# Altium footprint library CAPACITOR.PcbLib: 8 footprints
Each footprint in its own frame and in the unit in brackets; x right, y up, seen from the top. Pads: shape width x height; smd on the part's side, far side on the other; paste and mask are expansions set on the pad; w line width, h text height; cw(c..) or ccw(c..) is an arc to the next point about the centre after c.
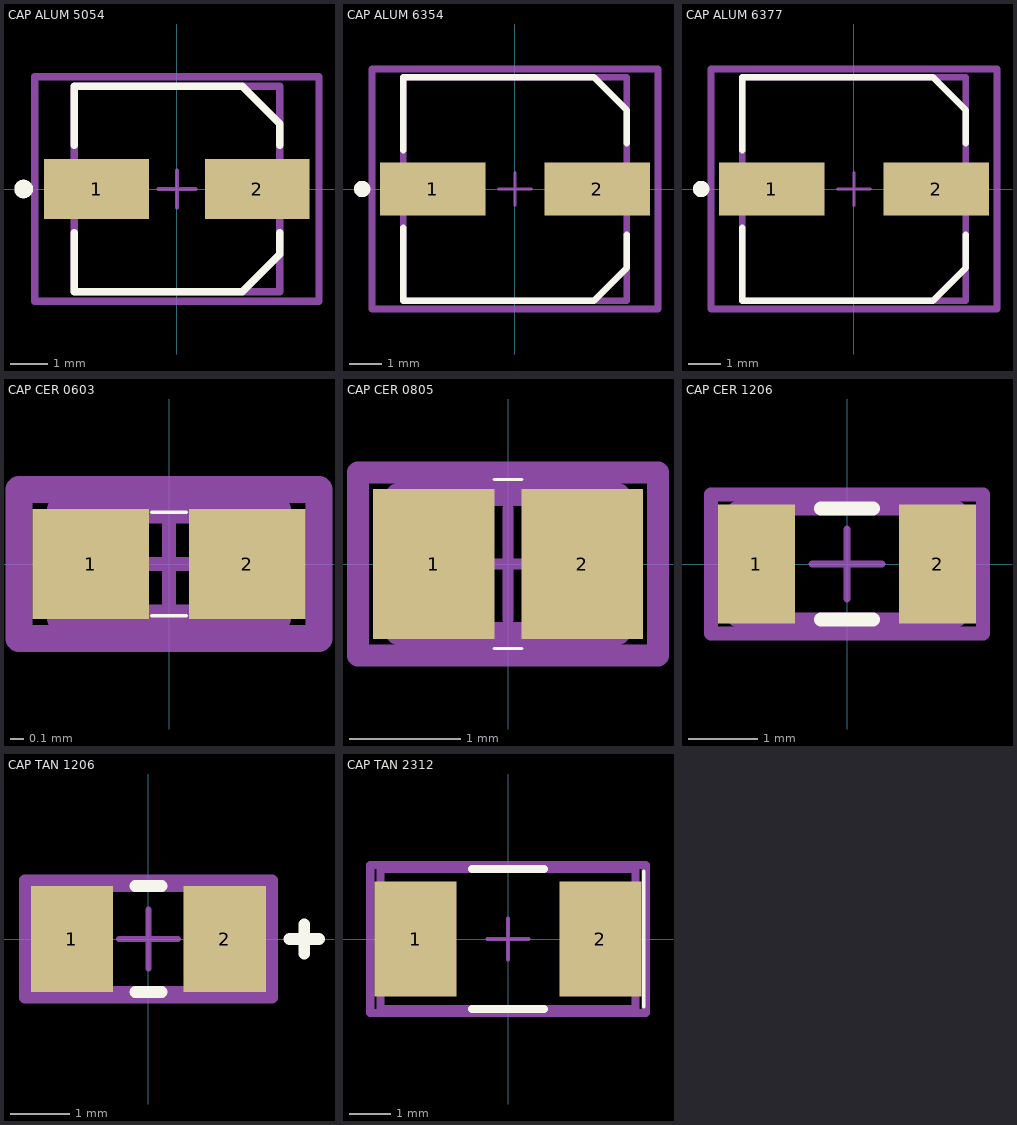
[diagram p0: the footprints below, top view; thin cyan lines are the x and y axes]

## CAP ALUM 5054 [mm]
pads (2):
  rect 2.8x1.6 smd paste+0: 1(-2.15,0) 2(2.15,0)
Top Overlay:
  circle w0.25: c-4.1,0 r0.125
  lines w0.2: -2.75,-1.175 -2.75,-2.75 1.75,-2.75 2.75,-1.75 2.75,-1.175 ; -2.75,1.175 -2.75,2.75 1.75,2.75 2.75,1.75 2.75,1.175
Top Assembly:
  lines w0.2: -3.8,-3 3.8,-3 3.8,3 -3.8,3 -3.8,-3
  text ".Designator" at 0,0.188 h1
Top 3D Body:
  lines w0.2: -2.75,-2.75 2.75,-2.75 2.75,2.75 -2.75,2.75 -2.75,-2.75
Top Courtyard:
  lines w0.2: -3.8,-3 3.8,-3 3.8,3 -3.8,3 -3.8,-3
Top Component Center:
  lines w0.1: -0.5,0 0.5,0 ; 0,-0.5 0,0.5
3D body "Cap_Panasonic_Electronic_Components_EEE-1AA101WR_eec.STEP": height 0.25, standoff 0, extent -3.8,-3 3.8,3

## CAP ALUM 6354 [mm]
pads (2):
  rect 3.2x1.6 smd paste+0: 1(-2.5,0) 2(2.5,0)
Top Overlay:
  circle w0.25: c-4.65,0 r0.125
  lines w0.2: -3.4,-1.175 -3.4,-3.4 2.4,-3.4 3.4,-2.4 3.4,-1.4 ; -3.4,1.175 -3.4,3.4 2.4,3.4 3.4,2.4 3.4,1.4
Top Assembly:
  lines w0.2: -4.35,-3.65 -4.35,3.65 4.35,3.65 4.35,-3.65 -4.35,-3.65
  text ".Designator" at 0,0.188 h1
Top 3D Body:
  lines w0.2: -3.4,-3.4 -3.4,3.4 3.4,3.4 3.4,-3.4 -3.4,-3.4
Top Courtyard:
  lines w0.2: -4.35,-3.65 -4.35,3.65 4.35,3.65 4.35,-3.65 -4.35,-3.65
Top Component Center:
  lines w0.1: -0.5,0 0.5,0 ; 0,-0.5 0,0.5
3D body "Cap_Panasonic_EEHZA1H330XP_eec.STEP": height 0.25, standoff 0, extent -4.35,-3.65 4.35,3.65

## CAP ALUM 6377 [mm]
pads (2):
  rect 3.2x1.6 smd paste+0: 1(-2.5,0) 2(2.5,0)
Top Overlay:
  circle w0.25: c-4.65,0 r0.125
  lines w0.2: -3.4,-1.175 -3.4,-3.4 2.4,-3.4 3.4,-2.4 3.4,-1.4 ; -3.4,1.175 -3.4,3.4 2.4,3.4 3.4,2.4 3.4,1.4
Top Assembly:
  lines w0.2: -4.35,-3.65 4.35,-3.65 4.35,3.65 -4.35,3.65 -4.35,-3.65
  text ".Designator" at 0,0.188 h1
Top 3D Body:
  lines w0.2: -3.4,-3.4 3.4,-3.4 3.4,3.4 -3.4,3.4 -3.4,-3.4
Top Courtyard:
  lines w0.2: -4.35,-3.65 4.35,-3.65 4.35,3.65 -4.35,3.65 -4.35,-3.65
Top Component Center:
  lines w0.1: -0.5,0 0.5,0 ; 0,-0.5 0,0.5
3D body "Cap_Panasonic_EEHZA1H330XP_eec.STEP": height 0.25, standoff 0, extent -4.35,-3.65 4.35,3.65

## CAP CER 0603 [mm] "cap 0603 smd"
pads (2):
  rect 0.858x0.812 smd paste+0: 1(-0.577,0) 2(0.577,0)
Top Overlay:
  lines w0.025: -0.127,-0.381 0.127,-0.381 ; -0.127,0.381 0.127,0.381
Top Assembly:
  lines w0.2: -1.106,-0.55 -1.106,0.55 1.106,0.55 1.106,-0.55 -1.106,-0.55
  text ".Designator" at 0,0.188 h1
Top 3D Body:
  lines w0.2: -0.8,-0.4 -0.8,0.4 0.8,0.4 0.8,-0.4 -0.8,-0.4
Top Courtyard:
  lines w0.2: -1.106,-0.55 -1.106,0.55 1.106,0.55 1.106,-0.55 -1.106,-0.55
Top Component Center:
  lines w0.1: -0.5,0 0.5,0 ; 0,-0.5 0,0.5
3D body "csmd-0603_l1-6_w0-81_h0-86.stp": height 0.86, standoff 0, extent -0.8,-0.405 0.8,0.405

## CAP CER 0805 [mm] "cap 0805smd"
pads (2):
  rect 1.1x1.356 smd paste+0 mask+0.05: 1(-0.67,0) 2(0.67,0)
Top Overlay:
  lines w0.025: -0.127,-0.762 0.127,-0.762 ; -0.127,0.762 0.127,0.762
Top Assembly:
  lines w0.2: -1.353,-0.825 1.353,-0.825 1.353,0.825 -1.353,0.825 -1.353,-0.825
  text ".Designator" at 0,0.188 h1
Top 3D Body:
  lines w0.2: -1,-0.625 1,-0.625 1,0.625 -1,0.625 -1,-0.625
Top Courtyard:
  lines w0.2: -1.353,-0.825 1.353,-0.825 1.353,0.825 -1.353,0.825 -1.353,-0.825
Top Component Center:
  lines w0.1: -0.5,0 0.5,0 ; 0,-0.5 0,0.5
3D body "csmd-0805_l2-01_w1-25_h0-94.stp": height 0.94, standoff 0, extent -1.005,-0.625 1.005,0.625

## CAP CER 1206 [mm]
pads (2):
  rect 1.105x1.706 smd paste+0: 1(-1.301,0) 2(1.301,0)
Top Overlay:
  lines w0.2: -0.373,-0.8 0.373,-0.8 ; -0.373,0.8 0.373,0.8
Top Assembly:
  lines w0.2: -1.953,-1 1.953,-1 1.953,1 -1.953,1 -1.953,-1
  text ".Designator" at 0,0.188 h1
Top 3D Body:
  lines w0.2: -1.6,-0.8 -1.6,0.8 1.6,0.8 1.6,-0.8 -1.6,-0.8
Top Courtyard:
  lines w0.2: -1.953,-1 1.953,-1 1.953,1 -1.953,1 -1.953,-1
Top Component Center:
  lines w0.1: -0.5,0 0.5,0 ; 0,-0.5 0,0.5
3D body "Cap_KEMET_C1206C472K4RACTU_eec.STEP": height 0.25, standoff 0, extent -1.953,-1 1.953,1

## CAP TAN 1206 [mm]
pads (2):
  rect 1.4x1.8 smd paste+0 mask+0: 1(-1.3,0) 2(1.3,0)
Top Overlay:
  lines w0.2: -0.225,-0.9 0.225,-0.9 ; -0.225,0.9 0.225,0.9 ; 2.4,0 2.9,0 ; 2.65,-0.25 2.65,0.25
Top Assembly:
  lines w0.2: -2.1,-1 2.1,-1 2.1,1 -2.1,1 -2.1,-1
Top 3D Body:
  lines w0.2: -1.7,-0.9 1.7,-0.9 1.7,0.9 -1.7,0.9 -1.7,-0.9
Top Courtyard:
  lines w0.2: -2.1,-1 2.1,-1 2.1,1 -2.1,1 -2.1,-1
Top Component Center:
  lines w0.1: -0.5,0 0.5,0 ; 0,-0.5 0,0.5
3D body "Cap_AVX_TAJA476K002RNJ_eec.STEP": height 0.25, standoff 0, extent -2.1,-1 2.1,1

## CAP TAN 2312 [mm]
pads (2):
  rect 2x2.8 smd paste+0: 1(-2.25,0) 2(2.25,0)
Top Overlay:
  lines w0.076: 3.302,-1.651 3.302,1.651
  lines w0.2: -0.875,-1.7 0.875,-1.7 ; -0.875,1.7 0.875,1.7
Top Assembly:
  lines w0.2: -3.35,-1.8 3.35,-1.8 3.35,1.8 -3.35,1.8 -3.35,-1.8
  text ".Designator" at 0,0 h1
Top 3D Body:
  lines w0.2: -3.1,-1.7 3.1,-1.7 3.1,1.7 -3.1,1.7 -3.1,-1.7
Top Courtyard:
  lines w0.2: -3.35,-1.8 3.35,-1.8 3.35,1.8 -3.35,1.8 -3.35,-1.8
Top Component Center:
  lines w0.1: -0.5,0 0.5,0 ; 0,-0.5 0,0.5
3D body "Cap_AVX_TAJC157M006TNJ_eec.STEP": height 0.25, standoff 0, extent -3.35,-1.8 3.35,1.8